# Altium footprint library 14SOIC.PcbLib: 1 footprints
Each footprint in its own frame and in the unit in brackets; x right, y up, seen from the top. Pads: shape width x height; smd on the part's side, far side on the other; paste and mask are expansions set on the pad; w line width, h text height; cw(c..) or ccw(c..) is an arc to the next point about the centre after c.
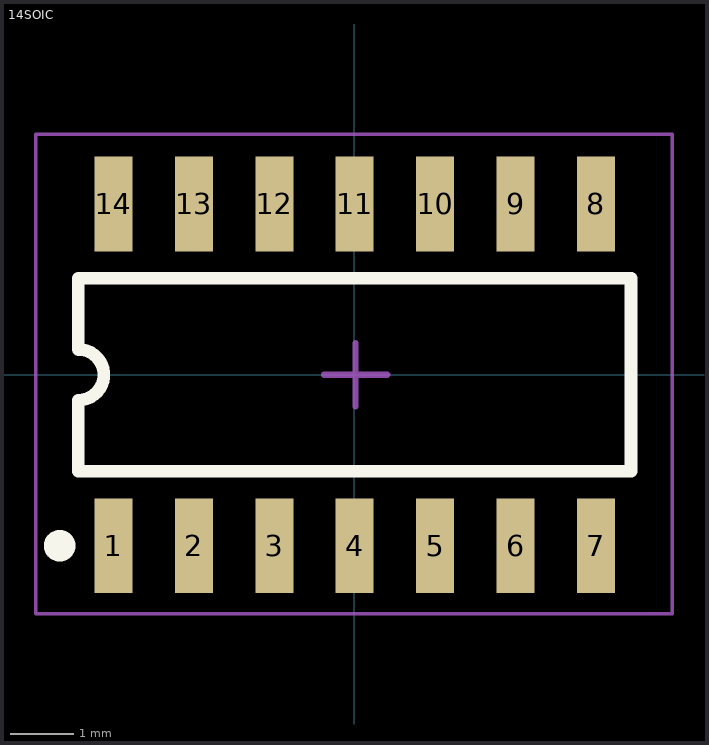
[diagram p0: the footprint, top view; thin cyan lines are the x and y axes]

## 14SOIC [mm]
height 1.75
pads (14):
  rect 0.6x1.5 smd: 1(-3.799,-2.7) 2(-2.529,-2.7) 3(-1.259,-2.7) 4(0.011,-2.7) 5(1.281,-2.7) 6(2.551,-2.7) 7(3.821,-2.7) 8(3.821,2.7) 9(2.551,2.7) 10(1.281,2.7) 11(0.011,2.7) 12(-1.259,2.7) 13(-2.529,2.7) 14(-3.799,2.7)
Top Overlay:
  circle w0.25: c-4.649,-2.7 r0.125
  lines w0.2: -4.354,-0.4 -4.354,-1.525 4.375,-1.525 4.375,1.525 -4.354,1.525 -4.354,0.425 ; -4.35,-0.4 ccw(c-4.35,0) -4.35,0.4
Top Courtyard:
  lines w0.05: -5.025,-3.775 5.025,-3.775 5.025,3.8 -5.025,3.8 -5.025,-3.775
  lines w0.1: -0.475,0 0.525,0 ; 0.025,-0.5 0.025,0.5
3D body: height 1, standoff 0, extent -4.375,-1.625 4.375,1.625